# EAGLE library part MCP73831/2-DFN-8 (library Microchip MCP73831_2)
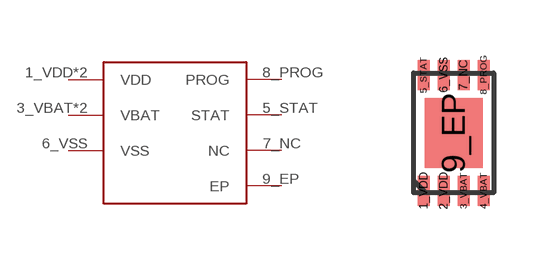
[diagram p0: symbol with the pads of DFN-8; footprint DFN-8]

Designator prefix -

## MCP73831/2-DFN-8  [DFN-8]
1_VDD  VDD
2_VDD  VDD
3_VBAT  VBAT
4_VBAT  VBAT
5_STAT  STAT
6_VSS  VSS
7_NC  NC
8_PROG  PROG
9_EP  EP

## Footprint DFN-8 (pad centres in mm)
smd 0.3 x 0.75: 1_VDD -0.75,-1.45; 2_VDD -0.25,-1.45; 3_VBAT 0.25,-1.45; 4_VBAT 0.75,-1.45; 5_STAT -0.75,1.45; 6_VSS -0.25,1.45; 7_NC 0.25,1.45; 8_PROG 0.75,1.45
smd 1.45 x 1.75: 9_EP 0,0